# EAGLE library part TCD1209DG (library ICs)
High speed and low dark current 2048 elements CCD image sensor.
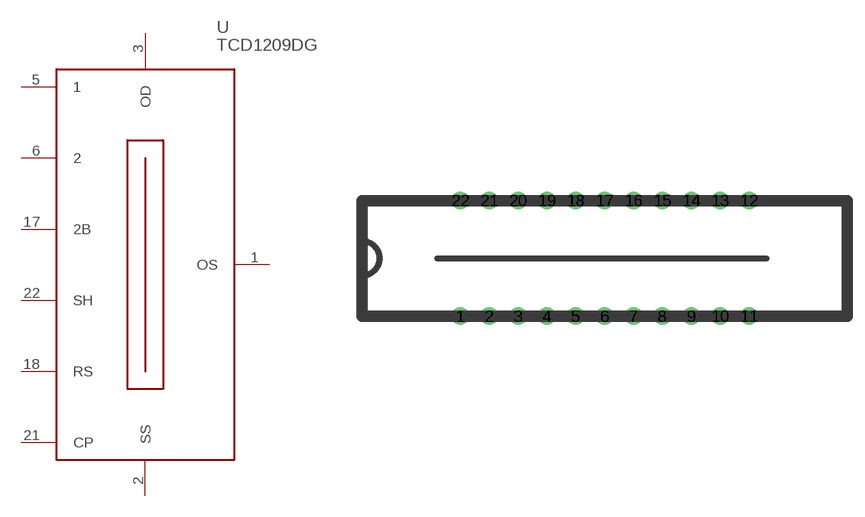
[diagram p14: symbol with the pads of WDIP-G-400-2.54A; footprint WDIP-G-400-2.54A]

Designator prefix U

## TCD1209DG (HEIGHT: 3.5; VALUE: TCD1209DG)  [WDIP-G-400-2.54A]
1  OS
2  SS
3  OD
5  1
6  2
17  2B
18  RS
21  CP
22  SH

## Footprint WDIP-G-400-2.54A (pad centres in mm)
drill 0.8 pad 1.5: 1 -12.5,-5; 2 -10,-5; 3 -7.5,-5; 4 -5,-5; 5 -2.5,-5; 6 0,-5; 7 2.5,-5; 8 5,-5; 9 7.5,-5; 10 10,-5; 11 12.5,-5; 12 12.5,5; 13 10,5; 14 7.5,5; 15 5,5; 16 2.5,5; 17 0,5; 18 -2.5,5; 19 -5,5; 20 -7.5,5; 21 -10,5; 22 -12.5,5